# Altium footprint library TSSOP-28.PcbLib: 1 footprints
Each footprint in its own frame and in the unit in brackets; x right, y up, seen from the top. Pads: shape width x height; smd on the part's side, far side on the other; paste and mask are expansions set on the pad; w line width, h text height; cw(c..) or ccw(c..) is an arc to the next point about the centre after c.
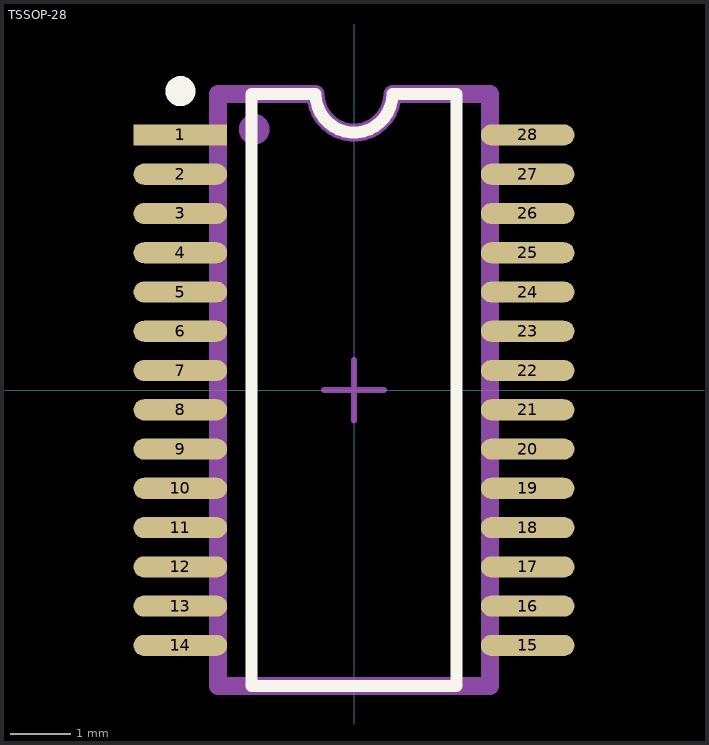
[diagram p0: the footprint, top view; thin cyan lines are the x and y axes]

## TSSOP-28 [mm] "TSOP, 28-Leads, Body 9,8x4,5mm (max), Pitch 0,65mm, IPC Medium Density"
height 1.2
pads (28):
  rect 1.55x0.35 smd: 1(-2.875,4.225)
  oval 1.55x0.35 smd: 2(-2.875,3.575) 3(-2.875,2.925) 4(-2.875,2.275) 5(-2.875,1.625) 6(-2.875,0.975) 7(-2.875,0.325) 8(-2.875,-0.325) 9(-2.875,-0.975) 10(-2.875,-1.625) 11(-2.875,-2.275) 12(-2.875,-2.925) 13(-2.875,-3.575) 14(-2.875,-4.225) 15(2.875,-4.225) 16(2.875,-3.575) 17(2.875,-2.925) 18(2.875,-2.275) 19(2.875,-1.625) 20(2.875,-0.975) 21(2.875,-0.325) 22(2.875,0.325) 23(2.875,0.975) 24(2.875,1.625) 25(2.875,2.275) 26(2.875,2.925) 27(2.875,3.575) 28(2.875,4.225)
Top Overlay:
  circle w0.25: c-2.875,4.95 r0.125
  lines w0.2: -1.7,-4.9 1.7,-4.9 1.7,4.9 0.635,4.9 cw(c0,4.9) -0.635,4.9 -1.7,4.9 -1.7,-4.9
Mechanical 13:
  circle w0.254: c-1.651,4.318 r0.127
  lines w0.3: -2.25,-4.9 2.25,-4.9 2.25,4.9 0.635,4.9 cw(c0,4.9) -0.635,4.9 -2.25,4.9 -2.25,-4.9
  text ".Designator" at -0.635,2.667 h1.5
Mechanical 15:
  lines w0.1: -0.5,0 0.5,0 ; 0,-0.5 0,0.5
3D body: height 1.35, standoff -0.01, extent -3.225,-4.9 3.175,4.9